# Altium footprint library SOT.PcbLib: 25 footprints (part 1 of 2)
Each footprint in its own frame and in the unit in brackets; x right, y up, seen from the top. Pads: shape width x height; smd on the part's side, far side on the other; paste and mask are expansions set on the pad; w line width, h text height; cw(c..) or ccw(c..) is an arc to the next point about the centre after c.
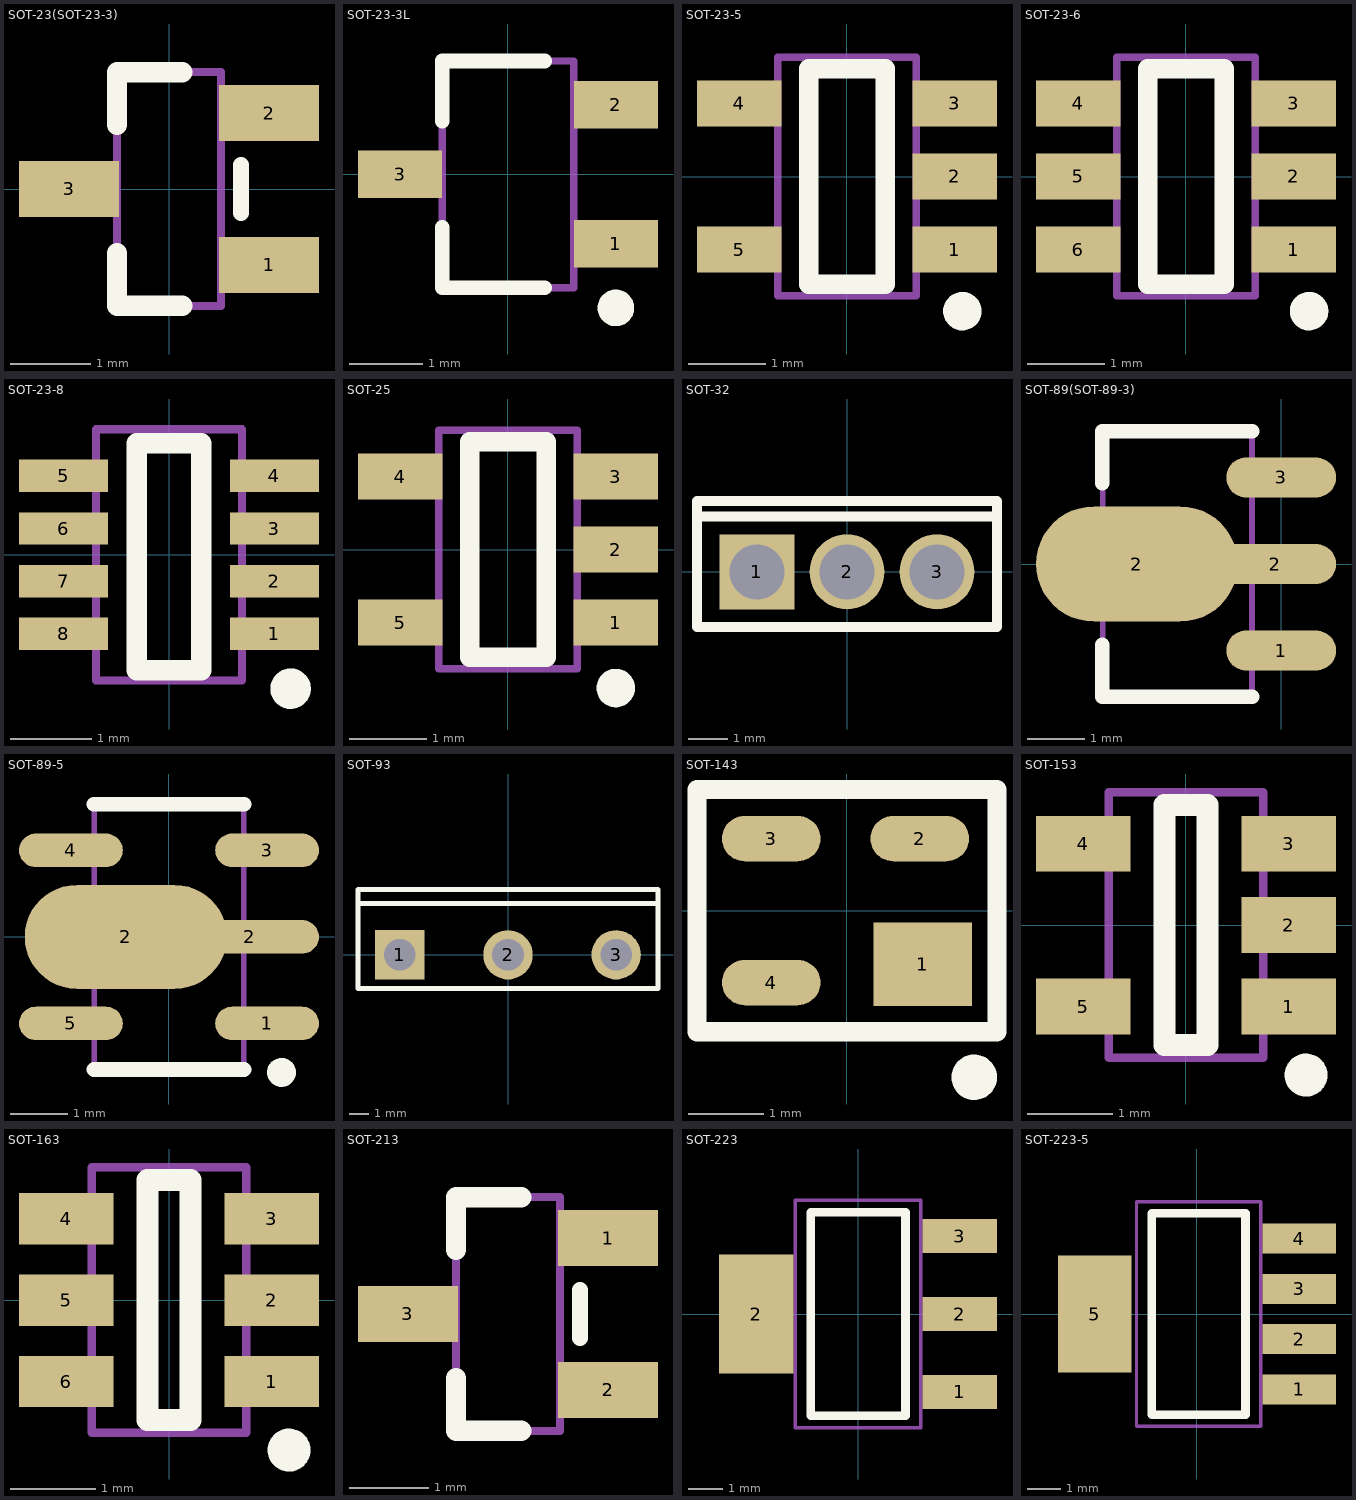
[diagram p0: the footprints below, top view; thin cyan lines are the x and y axes]

## SOT-23(SOT-23-3) [mm]
pads (3):
  rect 1.25x0.7 smd: 1(1.25,-0.95) 2(1.25,0.95) 3(-1.25,0)
Top Overlay:
  lines w0.2: 0.9,-0.3 0.9,0.3
  lines w0.254: -0.65,-0.8 -0.65,-1.46 0.165,-1.46 ; 0.165,1.46 -0.65,1.46 ; -0.65,0.8 -0.65,1.46 ; -0.65,0.8 -0.65,1.46 ; -0.65,0.8 -0.65,1.46
Mechanical 13:
  lines w0.1: -0.65,-1.46 -0.65,1.46 ; -0.65,-1.46 0.65,-1.46 ; -0.65,-1.46 0.65,-1.46 ; -0.65,-1.46 -0.65,1.46 ; -0.65,-1.46 0.65,-1.46 ; -0.65,-1.46 -0.65,1.46 ; -0.65,1.46 0.65,1.46 ; -0.65,1.46 0.65,1.46 ; -0.65,1.46 0.65,1.46 ; 0.65,-1.46 0.65,1.46 ; 0.65,-1.46 0.65,1.46 ; 0.65,-1.46 0.65,1.46
3D body "SOT-23.step": height 1.3, standoff 0, extent -1.5,-1.5 1.5,1.5

## SOT-23-3L [mm] "http://www.aosmd.com/res/packaging_information/SOT-23-3L.pdf"
height 1.25
pads (3):
  rect 1.15x0.65 smd: 1(1.475,-0.95) 2(1.475,0.95) 3(-1.475,0)
Top Overlay:
  circle w0.25: c1.475,-1.825 r0.125
  lines w0.2: -0.9,-0.725 -0.9,-1.55 0.5,-1.55 ; -0.9,0.725 -0.9,1.55 0.5,1.55
Mechanical 13:
  lines w0.1: -0.9,-1.55 -0.9,1.55 0.9,1.55 0.9,-1.55 -0.9,-1.55
3D body: height 1.25, standoff 0, extent -0.9,-1.55 0.9,1.55

## SOT-23-5 [mm]
pads (5):
  rect 1.1x0.6 smd: 1(1.4,-0.95) 2(1.4,0) 3(1.4,0.95) 4(-1.4,0.95) 5(-1.4,-0.95)
Top Overlay:
  circle w0.25: c1.5,-1.75 r0.125
  lines w0.254: -0.5,-1.4 0.5,-1.4 0.5,1.4 -0.5,1.4 -0.5,-1.4
Mechanical 13:
  lines w0.1: -0.9,-1.55 -0.9,1.55 0.9,1.55 0.9,-1.55 -0.9,-1.55

## SOT-23-6 [mm]
pads (6):
  rect 1.1x0.6 smd: 1(1.4,-0.95) 2(1.4,0) 3(1.4,0.95) 4(-1.4,0.95) 5(-1.4,0) 6(-1.4,-0.95)
Top Overlay:
  circle w0.25: c1.6,-1.75 r0.125
  lines w0.254: -0.5,-1.4 -0.5,1.4 0.5,1.4 0.5,-1.4 -0.5,-1.4
Mechanical 13:
  lines w0.1: -0.9,-1.55 -0.9,1.55 0.9,1.55 0.9,-1.55 -0.9,-1.55

## SOT-23-8 [mm]
pads (8):
  rect 1.1x0.4 smd mask+0.051: 1(1.3,-0.975) 2(1.3,-0.325) 3(1.3,0.325) 4(1.3,0.975) 5(-1.3,0.975) 6(-1.3,0.325) 7(-1.3,-0.325) 8(-1.3,-0.975)
Top Overlay:
  circle w0.25: c1.5,-1.65 r0.125
  lines w0.254: -0.4,-1.425 0.4,-1.425 0.4,1.375 -0.4,1.375 -0.4,-1.425
Mechanical 13:
  lines w0.1: -0.9,-1.55 -0.9,1.55 0.9,1.55 0.9,-1.55 -0.9,-1.55

## SOT-25 [mm]
pads (5):
  rect 1.1x0.6 smd: 1(1.4,-0.95) 2(1.4,0) 3(1.4,0.95) 4(-1.4,0.95) 5(-1.4,-0.95)
Top Overlay:
  circle w0.25: c1.4,-1.8 r0.125
  lines w0.254: -0.5,-1.4 0.5,-1.4 0.5,1.4 -0.5,1.4 -0.5,-1.4
Mechanical 13:
  lines w0.1: -0.9,-1.55 -0.9,1.55 0.9,1.55 0.9,-1.55 -0.9,-1.55

## SOT-32 [mm]
pads (3):
  rect 1.9x1.9 hole 1.4: 1(-2.28,0)
  round 1.9 hole 1.4: 2(0,0) 3(2.28,0)
Top Overlay:
  lines w0.254: -3.8,1.4 3.8,1.4 ; -3.8,-1.4 -3.8,1.8 3.8,1.8 3.8,-1.4 -3.8,-1.4
3D body "User Library-TO-126 (SOT32) PCB.STEP": height 13.19, standoff -3.54, extent -3.8,-1 3.8,1.55

## SOT-89(SOT-89-3) [mm]
pads (4):
  oval 1.9x0.7 smd: 1(0,-1.5) 3(0,1.5)
  oval 3.5x2 smd: 2(-2.5,0)
  oval 2.1x0.7 smd: 2(-0.1,0)
Top Overlay:
  lines w0.254: -3.1,-1.4 -3.1,-2.3 -0.5,-2.3 ; -3.1,1.4 -3.1,2.3 -0.5,2.3
Mechanical 13:
  lines w0.1: -3.095,-2.3 -3.095,2.3 -0.505,2.3 -0.505,-2.3 -3.095,-2.3
3D body "SOT-89-3.STEP": height 1.51, standoff 0, extent -3.75,-2.25 0.55,2.25

## SOT-89-5 [mm]
pads (6):
  oval 1.8x0.58 smd: 1(1.7,-1.5) 3(1.7,1.5) 4(-1.7,1.5) 5(-1.7,-1.5)
  oval 3.5x1.8 smd: 2(-0.75,0)
  oval 2.4x0.58 smd: 2(1.4,0)
Top Overlay:
  circle w0.25: c1.95,-2.35 r0.125
  lines w0.254: -1.3,-2.3 1.3,-2.3 ; -1.3,2.3 1.3,2.3
Mechanical 13:
  lines w0.1: -1.295,-2.3 1.295,-2.3 1.295,2.3 -1.295,2.3 -1.295,-2.3
3D body "SOT-89-5.STEP": height 1.5, standoff 0, extent -2.175,-2.25 2.175,2.25

## SOT-93 [mm]
pads (3):
  rect 2.5x2.5 hole 1.6: 1(-5.48,0)
  round 2.5 hole 1.6: 2(0,0) 3(5.48,0)
Top Overlay:
  lines w0.254: -7.6,2.6 7.6,2.6 ; -7.6,-1.7 -7.6,3.3 7.6,3.3 7.6,-1.7 -7.6,-1.7

## SOT-143 [mm]
pads (4):
  rect 1.3x1.1 smd: 1(1,-0.71)
  oval 1.3x0.6 smd: 2(0.96,0.95) 3(-1,0.95) 4(-1,-0.95)
Top Overlay:
  circle w0.3: c1.68,-2.2 r0.15
  lines w0.254: -1.98,-1.6 -1.98,1.6 1.98,1.6 1.98,-1.6 -1.98,-1.6
3D body "User Library-SOT-143.STEP": height 1, standoff 0, extent -1.23,-1.46 1.19,1.46

## SOT-153 [mm]
pads (5):
  rect 1.1x0.65 smd mask+0.051: 1(1.2,-0.95) 2(1.2,0) 3(1.2,0.95) 4(-1.2,0.95) 5(-1.2,-0.95)
Top Overlay:
  circle w0.25: c1.4,-1.75 r0.125
  lines w0.254: -0.25,-1.4 -0.25,1.4 0.25,1.4 0.25,-1.4 -0.25,-1.4
Mechanical 13:
  lines w0.1: -0.9,-1.55 0.9,-1.55 0.9,1.55 -0.9,1.55 -0.9,-1.55

## SOT-163 [mm]
pads (6):
  rect 1.1x0.6 smd: 1(1.2,-0.95) 2(1.2,0) 3(1.2,0.95) 4(-1.2,0.95) 5(-1.2,0) 6(-1.2,-0.95)
Top Overlay:
  circle w0.25: c1.4,-1.75 r0.125
  lines w0.254: -0.25,-1.4 0.25,-1.4 0.25,1.4 -0.25,1.4 -0.25,-1.4
Mechanical 13:
  lines w0.1: -0.9,-1.55 -0.9,1.55 0.9,1.55 0.9,-1.55 -0.9,-1.55

## SOT-213 [mm]
pads (3):
  rect 1.25x0.7 smd: 1(-8.402,5.141) 2(-8.402,3.241) 3(-10.902,4.191)
Top Overlay:
  lines w0.2: -8.752,3.891 -8.752,4.491
  lines w0.254: -10.302,3.391 -10.302,2.731 -9.487,2.731 ; -9.487,5.651 -10.302,5.651 ; -10.302,4.991 -10.302,5.651 ; -10.302,4.991 -10.302,5.651 ; -10.302,4.991 -10.302,5.651
Mechanical 13:
  lines w0.1: -10.302,2.731 -10.302,5.651 ; -10.302,2.731 -9.002,2.731 ; -10.302,2.731 -9.002,2.731 ; -10.302,2.731 -10.302,5.651 ; -10.302,2.731 -9.002,2.731 ; -10.302,2.731 -10.302,5.651 ; -10.302,5.651 -9.002,5.651 ; -10.302,5.651 -9.002,5.651 ; -10.302,5.651 -9.002,5.651 ; -9.002,2.731 -9.002,5.651 ; -9.002,2.731 -9.002,5.651 ; -9.002,2.731 -9.002,5.651
3D body "SOT-23.step": height 1.3, standoff 0, extent -11.152,2.691 -8.152,5.691

## SOT-223 [mm]
pads (4):
  rect 2.2x1 smd: 1(3,-2.3) 2(3,0) 3(3,2.3)
  rect 2.2x3.5 smd: 2(-3,0)
Top Overlay:
  lines w0.254: -1.4,-3 -1.4,3 1.4,3 1.4,-3 -1.4,-3
Mechanical 13:
  lines w0.1: -1.85,-3.35 1.85,-3.35 1.85,3.35 -1.85,3.35 -1.85,-3.35
3D body "TO-223.STEP": height 1.64, standoff -0.04, extent -3.49,-3.242 3.49,3.243

## SOT-223-5 [mm]
pads (5):
  rect 2.2x0.9 smd: 1(3.05,-2.25) 2(3.05,-0.75) 3(3.05,0.75) 4(3.05,2.25)
  rect 2.2x3.5 smd: 5(-3.05,0)
Top Overlay:
  lines w0.254: -1.35,-3 -1.35,3 1.45,3 1.45,-3 -1.35,-3
Mechanical 13:
  lines w0.1: -1.8,-3.35 1.9,-3.35 1.9,3.35 -1.8,3.35 -1.8,-3.35
3D body "User Library-User Library-SOT-223-5.STEP": height 1.64, standoff -0.01, extent -3.45,-3.25 3.55,3.25